# Altium schematic symbol library njr-opamp.SchLib: 1 symbol
Pins are listed as number, name and electrical type; pins without a type are passive.

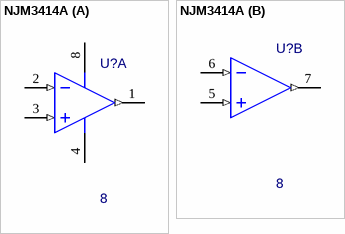
[diagram p0: symbol NJM3414A]

## NJM3414A
designator U?, comment 8
Sigle-Supply Dual High Current Operational Amplifiers; PinCount: 8; PN: *; Value: *; Package: DMP8; ExtraInfo: *
simulation model LMV321 (SUBCKT)
footprint DMP8 (SOIC, 8-Leads, Body 5.3x5.0mm (max), Pitch 1.27mm, IPC Medium Density)
part A pins: 1 OUT (out), 2 IN- (in), 3 IN+ (in), 4 GND (power), 8 V+ (power)
part B pins: 5 IN+ (in), 6 IN- (in), 7 OUT (out)